# Altium footprint library Public Library.PcbLib: 36 footprints (part 2 of 3)
Each footprint in its own frame and in the unit in brackets; x right, y up, seen from the top. Pads: shape width x height; smd on the part's side, far side on the other; paste and mask are expansions set on the pad; w line width, h text height; cw(c..) or ccw(c..) is an arc to the next point about the centre after c.
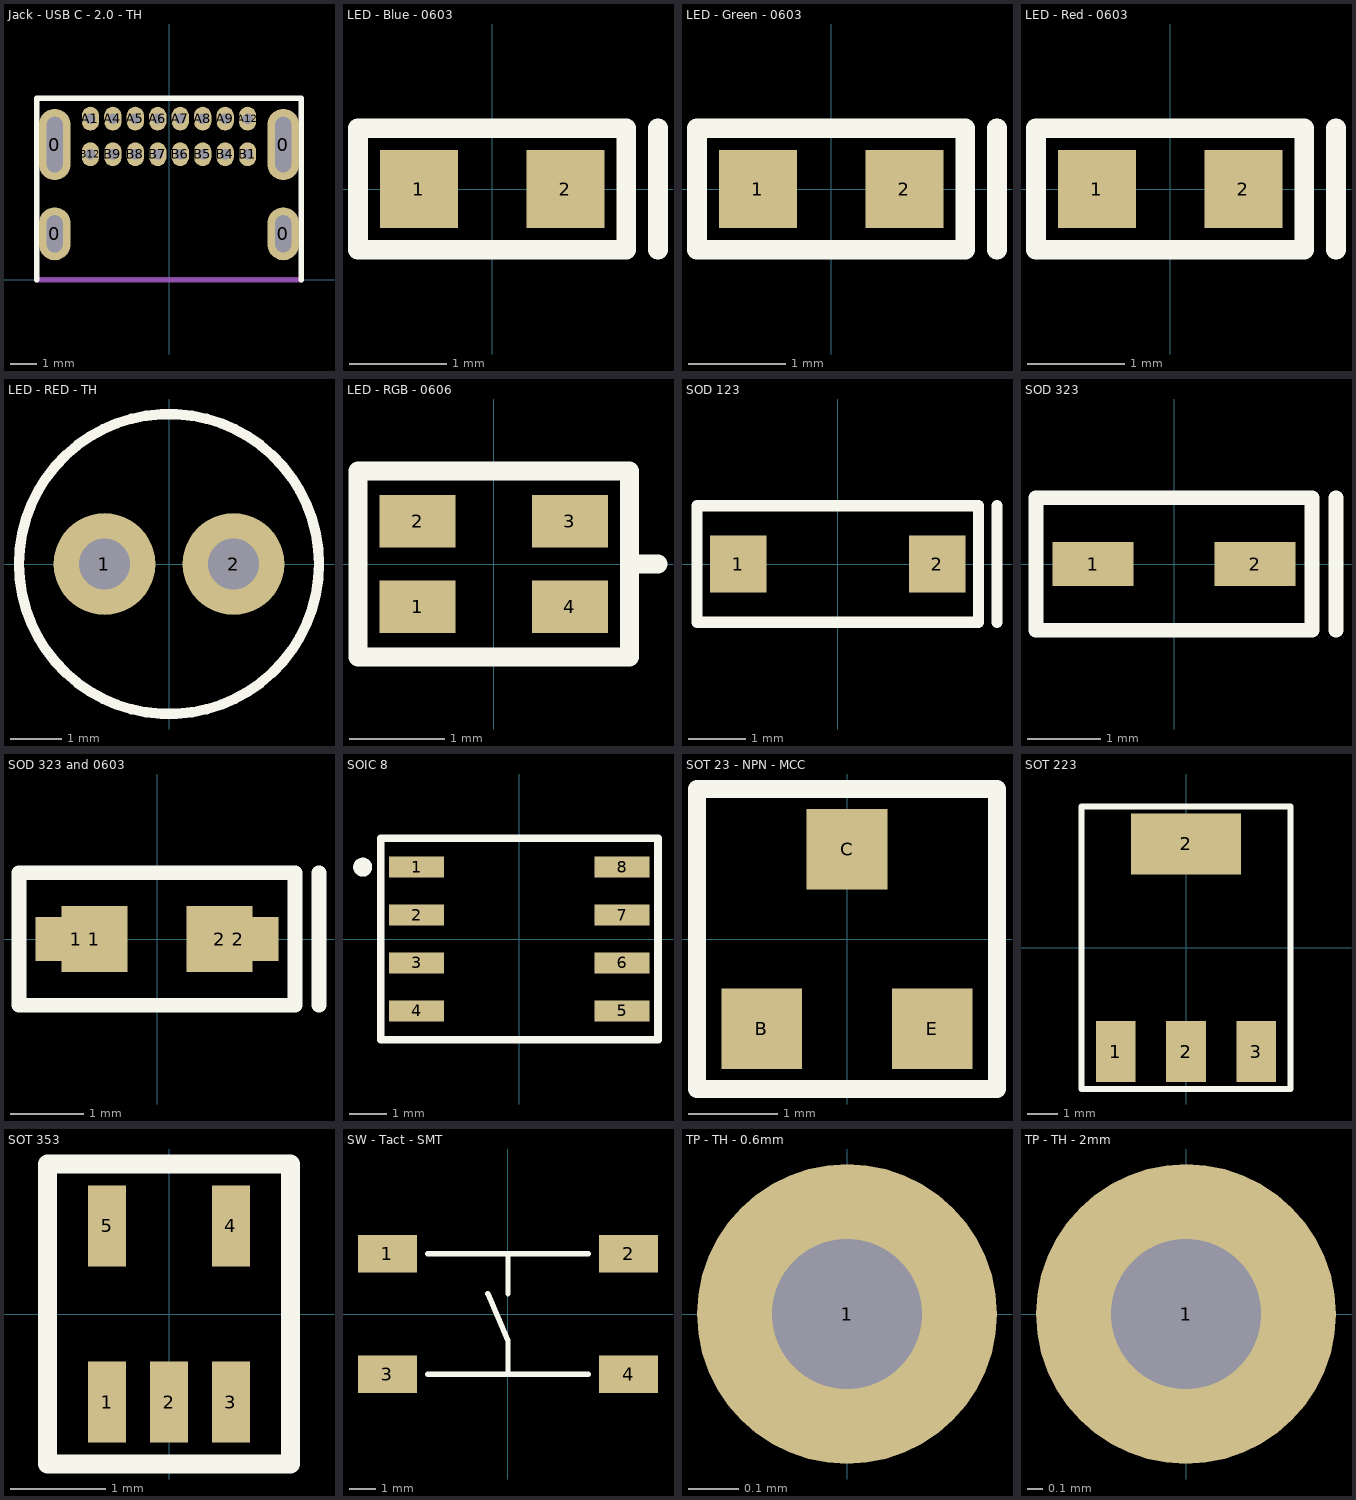
[diagram p1: the footprints below, top view; thin cyan lines are the x and y axes]

## Jack - USB C - 2.0 - TH [mm] "from 2073-USB4085-GF-ACT-ND"
pads (20):
  oval 1.2x2 hole 0.6 slot 1.4 at 90 deg mask+0.05: 0(-4.325,1.74) 0(4.325,1.74)
  oval 1.2x2.7 hole 0.6 slot 2.1 at 90 deg mask+0.05: 0(-4.325,5.12) 0(4.325,5.12)
  oval 0.65x0.9 hole 0.4 mask+0.05: A1(-2.975,6.1) A4(-2.125,6.1) A5(-1.275,6.1) A6(-0.425,6.1) A7(0.425,6.1) A8(1.275,6.1) A9(2.125,6.1) A12(2.975,6.1) B1(2.975,4.75) B4(2.125,4.75) B5(1.275,4.75) B6(0.425,4.75) B7(-0.425,4.75) B8(-1.275,4.75) B9(-2.125,4.75) B12(-2.975,4.75)
Top Overlay:
  lines w0.2: -5,0 -5,6.875 5,6.875 5,0
Mechanical 3:
  lines w0.2: -5,0 5,0
3D body "USB4085-GF-A.stp": height 3.46, standoff -2.1, extent -4.515,-2.514 4.515,6.656

## LED - Blue - 0603 [mm] "from 160-1436-1-ND"
pads (2):
  rect 0.8x0.8 smd mask+0.05: 1(-0.75,0) 2(0.75,0)
Top Overlay:
  lines w0.2: 1.7,-0.625 1.7,0.625 ; -1.375,-0.625 1.375,-0.625 1.375,0.625 -1.375,0.625 -1.375,-0.625
3D body: height 0.8, standoff 0.28, extent -0.5,-0.4 0.5,0.4
3D body: height 0.28, standoff 0, extent -0.8,-0.4 0.8,0.4

## LED - Green - 0603 [mm] "from 160-1436-1-ND"
pads (2):
  rect 0.8x0.8 smd mask+0.05: 1(-0.75,0) 2(0.75,0)
Top Overlay:
  lines w0.2: 1.7,-0.625 1.7,0.625 ; -1.375,-0.625 1.375,-0.625 1.375,0.625 -1.375,0.625 -1.375,-0.625
3D body: height 0.28, standoff 0, extent -0.8,-0.4 0.8,0.4
3D body: height 0.8, standoff 0.28, extent -0.5,-0.4 0.5,0.4

## LED - Red - 0603 [mm] "from 160-1436-1-ND"
pads (2):
  rect 0.8x0.8 smd mask+0.05: 1(-0.75,0) 2(0.75,0)
Top Overlay:
  lines w0.2: 1.7,-0.625 1.7,0.625 ; -1.375,-0.625 -1.375,0.625 1.375,0.625 1.375,-0.625 -1.375,-0.625
3D body: height 0.8, standoff 0.28, extent -0.5,-0.4 0.5,0.4
3D body: height 0.28, standoff 0, extent -0.8,-0.4 0.8,0.4

## LED - RED - TH [mm] "from 732-5016-ND"
pads (2):
  round 2 hole 1 mask+0.05: 1(-1.27,0) 2(1.27,0)
Top Overlay:
  circle w0.2: c0,0 r2.95
3D body "Wurth - 151051BS04000 - TH LED.stp": height 9.15, standoff -25.95, extent -2.95,-2.949 2.45,2.949

## LED - RGB - 0606 [mm] "from 1080-1552-1-ND"
pads (4):
  rect 0.8x0.55 smd mask+0.05: 1(-0.8,-0.45) 2(-0.8,0.45) 3(0.8,0.45) 4(0.8,-0.45)
Top Overlay:
  lines w0.2: 1.425,0 1.725,0 ; -1.425,-0.975 1.425,-0.975 1.425,0.975 -1.425,0.975 -1.425,-0.975
3D body: height 0.35, standoff 0.1, extent -0.5,-0.8 0.5,-0.3
3D body: height 0.35, standoff 0.1, extent -0.5,0.3 0.5,0.8
3D body: height 0.35, standoff 0.1, extent -0.5,-0.3 0.5,0.3
3D body: height 0.1, standoff 0, extent -0.8,-0.8 0.8,0.8

## SOD 123 [mm] "from 497-6653-1-ND"
pads (2):
  rect 1x1 smd mask+0.05: 1(-1.75,0) 2(1.75,0)
Top Overlay:
  lines w0.2: 2.8,-1.025 2.8,1.025 ; -2.475,-1.025 2.475,-1.025 2.475,1.025 -2.475,1.025 -2.475,-1.025
3D body "SOD 123.step": height 1.2, standoff 0, extent -1.875,-0.85 1.875,0.85

## SOD 323 [mm]
pads (2):
  rect 1.1x0.6 smd mask+0.05: 1(-1.1,0) 2(1.1,0)
Top Overlay:
  lines w0.2: 2.2,-0.9 2.2,0.9 ; -1.875,-0.9 1.875,-0.9 1.875,0.9 -1.875,0.9 -1.875,-0.9
3D body "SOD 323.STEP": height 1.14, standoff -0.01, extent -1.35,-0.723 1.35,0.723

## SOD 323 and 0603 [mm] "Can populate either a diode or resistor"
pads (4):
  rect 1.1x0.6 smd mask+0.05: 1(-1.1,0) 2(1.1,0)
  rect 0.9x0.9 smd mask+0.05: 1(-0.85,0) 2(0.85,0)
Top Overlay:
  lines w0.2: 2.2,-0.9 2.2,0.9 ; -1.875,-0.9 -1.875,0.9 1.875,0.9 1.875,-0.9 -1.875,-0.9
3D body "SOD 323.STEP": height 1.14, standoff -0.01, extent -1.35,-0.723 1.35,0.723

## SOIC 8 [mil]
pads (8):
  rect 57.5x22 smd paste+0 mask+1.97: 1(-107.25,75) 2(-107.25,25) 3(-107.25,-25) 4(-107.25,-75) 5(107.25,-75) 6(107.25,-25) 7(107.25,25) 8(107.25,75)
Top Overlay:
  circle w10: c-163.39,75 r4.92
  lines w7.87: -144.69,-105.31 -144.69,105.31 144.69,105.31 144.69,-105.31 -144.69,-105.31
3D body "SOIC 8.step": height 69.09, standoff 0, extent -122.01,-97.99 122,97.99

## SOT 23 - NPN - MCC [mm] "from MMBT3904 datasheet"
pads (3):
  rect 0.9x0.9 smd mask+0.05: B(-0.95,-1) C(0,1) E(0.95,-1)
Top Overlay:
  lines w0.2: -1.675,-1.675 -1.675,1.675 1.675,1.675 1.675,-1.675 -1.675,-1.675
3D body "SOT 23-3.step": height 1.1, standoff 0, extent -1.5,-1.25 1.5,1.25

## SOT 223 [mm]
pads (4):
  rect 1.3x2 smd mask+0.05: 1(-2.3,-3.4) 2(0,-3.4) 3(2.3,-3.4)
  rect 3.6x2 smd mask+0.05: 2(0,3.4)
Top Overlay:
  lines w0.2: -3.425,-4.625 3.425,-4.625 3.425,4.625 -3.425,4.625 -3.425,-4.625
3D body "SOT 223.step": height 1.6, standoff 0, extent -3.25,-3.537 3.25,3.537

## SOT 353 [mm]
pads (5):
  rect 0.4x0.85 smd mask+0.05: 1(-0.65,-0.925) 2(0,-0.925) 3(0.65,-0.925) 4(0.65,0.925) 5(-0.65,0.925)
Top Overlay:
  lines w0.2: -1.275,-1.575 -1.275,1.575 1.275,1.575 1.275,-1.575 -1.275,-1.575
3D body "SOT 353.STEP": height 1.1, standoff 0, extent -1.1,-1.2 1.1,1.2

## SW - Tact - SMT [mm]
pads (4):
  rect 2.2x1.4 smd mask+0.05: 1(-4.5,2.25) 2(4.5,2.25) 3(-4.5,-2.25) 4(4.5,-2.25)
Top Overlay:
  lines w0.2: -3,-2.25 3,-2.25 ; -3,2.25 3,2.25 ; -0.75,0.75 0,-1 0,-2.25 ; 0,0.75 0,2.25
3D body "SW - tact - SMT - HP0315AFKP2.stp": height 4.39, standoff 0, extent -4.496,-3.099 4.496,3.099

## TP - TH - 0.6mm [mm]
pads (1):
  round 0.6 hole 0.3 mask+0.05: 1(0,0)

## TP - TH - 2mm [mm]
pads (1):
  round 2 hole 1 mask+0.05: 1(0,0)